# Altium schematic symbol library SCH_Antenna.SchLib: 2 symbols
Pins are listed as number, name and electrical type; pins without a type are passive.

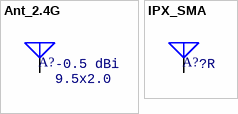
[diagram p0: symbols Ant_2.4G to IPX_SMA]

## Ant_2.4G
designator A?, comment value -0.5 dBi  type: 9.5x2.0  (hidden comment: 2.4GHz 50R)
Antenna
footprint ANT_2.4G_9.5x2.0
footprint ANT_2.4G_3.2x1.6
pins: 1 A

## IPX_SMA
designator A?  value ?R  (hidden comment: IPX_SMA)
IPX
footprint IPX_SMA
pins: 1 S